# Altium schematic symbol library Конденсаторы.SchLib: 4 symbols
Pins are listed as number, name and electrical type; pins without a type are passive.

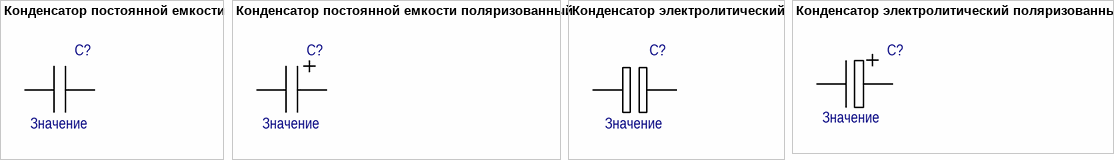
[diagram p0: symbols Конденсатор постоянной емкости to Конденсатор электролитический поляризованный]

## Конденсатор постоянной емкости
designator C?, comment Значение
Capacitor; Value: Значение; Part: *; Alternative part: *; ComponentLink1Description: Link; ComponentLink1URL: *; ComponentLink2Description: Alternative link; ComponentLink2URL: *
footprint CAP-0603 (Chip Capacitor, 2-Leads, Body 1,60x0,85mm, IPC Medium Density)
pins: 1, 2

## Конденсатор постоянной емкости поляризованный
designator C?, comment Значение
Capacitor; Value: Значение; Part: *; Alternative part: *
footprint CAP-0603 (Chip Capacitor, 2-Leads, Body 1,60x0,85mm, IPC Medium Density)
pins: 1, 2

## Конденсатор электролитический
designator C?, comment Значение
Capacitor; Part: *; Alternative part: *; Value: Значение
pins: 1, 2

## Конденсатор электролитический поляризованный
designator C?, comment Значение
Capacitor; Part: *; Alternative part: *; Value: Значение; ComponentLink1Description: Link; ComponentLink1URL: *; ComponentLink2Description: Alternative link; ComponentLink2URL: *
pins: 1, 2